# EAGLE library part PROJEKT_SE5_ESP32-S3-DEVKIT (library Library_Łukasz.Skowron)
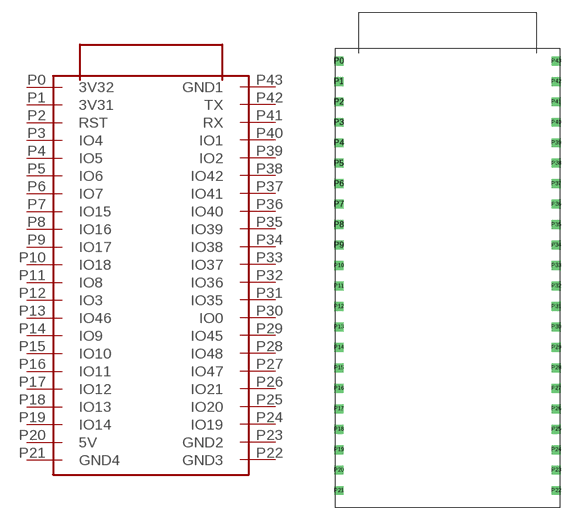
[diagram p3: symbol with the pads of PROJEKT_SE5_ESP32-S3-DEVKIT; footprint PROJEKT_SE5_ESP32-S3-DEVKIT]

Designator prefix -

## PROJEKT_SE5_ESP32-S3-DEVKIT  [PROJEKT_SE5_ESP32-S3-DEVKIT]
P0  3V32  pwr
P1  3V31  pwr
P2  RST  in
P3  IO4
P4  IO5
P5  IO6
P6  IO7
P7  IO15
P8  IO16
P9  IO17
P10  IO18
P11  IO8
P12  IO3
P13  IO46
P14  IO9
P15  IO10
P16  IO11
P17  IO12
P18  IO13
P19  IO14
P20  5V  pwr
P21  GND4  pwr
P22  GND3  pwr
P23  GND2  pwr
P24  IO19
P25  IO20
P26  IO21
P27  IO47
P28  IO48
P29  IO45
P30  IO0
P31  IO35
P32  IO36
P33  IO37
P34  IO38
P35  IO39
P36  IO40
P37  IO41
P38  IO42
P39  IO2
P40  IO1
P41  RX  in
P42  TX  out
P43  GND1  pwr

## Footprint PROJEKT_SE5_ESP32-S3-DEVKIT (pad centres in mm)
drill 0.6 square: P0 -13.5,26.94; P1 -13.5,24.4; P2 -13.5,21.86; P3 -13.5,19.32; P4 -13.5,16.78; P5 -13.5,14.24; P6 -13.5,11.7; P7 -13.5,9.16; P8 -13.5,6.62; P9 -13.5,4.08; P10 -13.5,1.54; P11 -13.5,-1; P12 -13.5,-3.54; P13 -13.5,-6.08; P14 -13.5,-8.62; P15 -13.5,-11.16; P16 -13.5,-13.7; P17 -13.5,-16.24; P18 -13.5,-18.78; P19 -13.5,-21.32; P20 -13.5,-23.86; P21 -13.5,-26.4; P22 13.5,-26.4; P23 13.5,-23.86; P24 13.5,-21.32; P25 13.5,-18.78; P26 13.5,-16.24; P27 13.5,-13.7; P28 13.5,-11.16; P29 13.5,-8.62; P30 13.5,-6.08; P31 13.5,-3.54; P32 13.5,-1; P33 13.5,1.54; P34 13.5,4.08; P35 13.5,6.62; P36 13.5,9.16; P37 13.5,11.7; P38 13.5,14.24; P39 13.5,16.78; P40 13.5,19.32; P41 13.5,21.86; P42 13.5,24.4; P43 13.5,26.94